# EAGLE library part SIM-HOLDER-HINGED (library BaseApp)
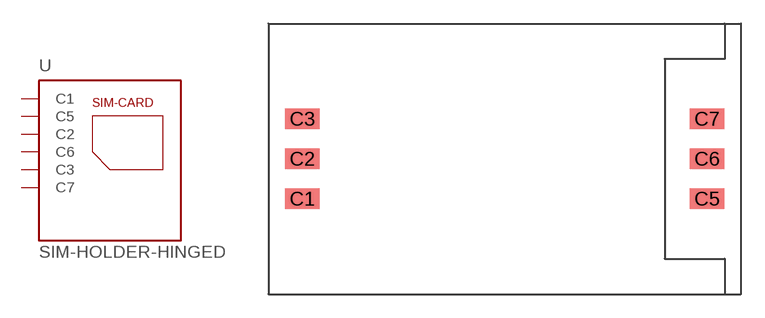
[diagram p95: symbol with the pads of SIM-HOLDER-HINGED; footprint SIM-HOLDER-HINGED]

Designator prefix -

## SIM-HOLDER-HINGED  [SIM-HOLDER-HINGED]
C1  C1  pas
C2  C2  pas
C3  C3  pas
C5  C5  pas
C6  C6  pas
C7  C7  pas

## Footprint SIM-HOLDER-HINGED (pad centres in mm)
smd 2.2 x 1.3: C1 -12.85,-2.54; C2 -12.85,0; C3 -12.85,2.54; C5 12.85,-2.54; C6 12.85,0; C7 12.85,2.54